# Altium integrated library ON Semi MOSFETs.IntLib: 1097 symbols (part 15 of 26)
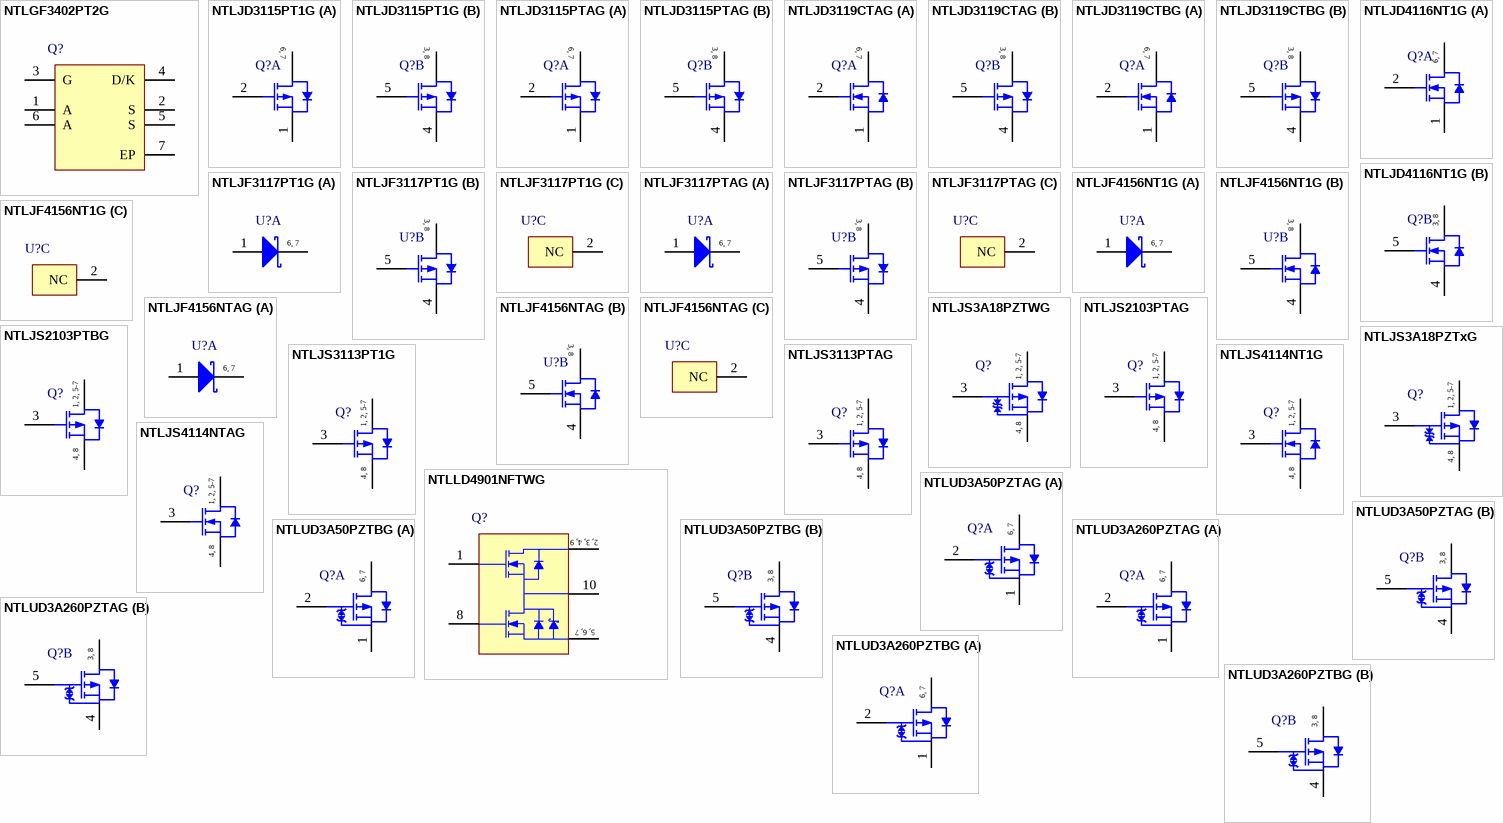
[diagram p45: symbols NTLGF3402PT2G to NTLUD3A260PZTBG]

## NTLJD4116NT1G
designator Q?
Power MOSFET, 30 V, 4.6 A, uCool(TM) Dual N-Channel, 6-Pin WDFN, Pb-Free, Tape and Reel; Manufacturer: On Semiconductor; PartNumber: NTLJD4116NT1G; Channel Polarity: N Channel; Ciss Typ (pF): 427; Coss Typ (pF): 51; Crss Typ (pF): 32; ID Max (A): 4.6; Qrr Typ (nC): 5; V(BR)DSS Min (V): 30; VGS Max (V): 8; VGS(th) Max (V): 1; DatasheetVersion: Rev. 4; PackageVersion: Rev. B; PackageReference: WDFN-6-506-AN-01_B; PackageDescription: 6-Pin Small Outline No-Lead, Body 2 x 2 mm, Pitch 0.65 mm; Configuration: Dual; Package Type: WDFN-6; Packing: Tape and Reel; RoHS: Pb-Free; Mounting Technology: Surface Mount; ComponentLink1Description: Manufacturer URL; ComponentLink1URL: http://www.onsemi.com/; ComponentLink2Description: Datasheet; ComponentLink2URL: http://www.onsemi.com/pub_link/Collateral/NTLJD4116N-D.PDF; ComponentLink3Description: Package Specification; ComponentLink3URL: http://www.onsemi.com/pub_link/Collateral/NTLJF4156N-D.PDF
footprint ONSC-WDFN-6-506-AN-01_B_V (SON, 6-Leads, Body 2x2mm, Pitch 0.65mm)
part A pins: 1 S1, 2 G1, 6 D1, 7 D1
part B pins: 3 D2, 4 S2, 5 G2, 8 D2
part A text: 6, 7
part B text: 3, 8

## NTLJF3117PT1G
designator U?
Power MOSFET and Schottky Diode, -20 V, -4.1 A, P-Channel, with 2 A Schottky Barrier Diode, 6-Pin WDFN, Pb-Free, Tape and Reel; Manufacturer: On Semiconductor; PartNumber: NTLJF3117PT1G; Channel Polarity: P Channel; Ciss Typ (pF): 531; Configuration: with Schottky Diode; Coss Typ (pF): 91; Crss Typ (pF): 56; ID Max (A): 4.1; Qrr Typ (nC): 5.7; V(BR)DSS Min (V): 20; VGS Max (V): 8; VGS(th) Max (V): 1; DatasheetVersion: Rev. 2; PackageVersion: Rev. C; PackageReference: WDFN-6-506-AN-01_C; PackageDescription: 6-Pin Small Outline No-Lead, Body 2 x 2 mm, Pitch 0.65 mm; Package Type: WDFN-6; Packing: Tape and Reel; RoHS: Pb-Free; Mounting Technology: Surface Mount; ComponentLink1Description: Manufacturer URL; ComponentLink1URL: http://www.onsemi.com/; ComponentLink2Description: Datasheet; ComponentLink2URL: http://www.onsemi.com/pub_link/Collateral/NTLJF3117P-D.PDF; ComponentLink3Description: Package Specification; ComponentLink3URL: http://www.onsemi.com/pub_link/Collateral/NTLJF3117P-D.PDF
footprint ONSC-WDFN-6-506-AN-01_C_V (SON, 6-Leads, Body 2x2mm, Pitch 0.65mm)
part A pins: 1 A, 6 K, 7 K
part B pins: 3 D, 4 S, 5 G, 8 D
part C pins: 2 NC
part A text: 6, 7
part B text: 3, 8

## NTLJF3117PTAG
designator U?
Power MOSFET and Schottky Diode, -20 V, -4.1 A, P-Channel, with 2 A Schottky Barrier Diode, 6-Pin WDFN, Pb-Free, Tape and Reel; Manufacturer: On Semiconductor; PartNumber: NTLJF3117PTAG; Channel Polarity: P Channel; Ciss Typ (pF): 531; Configuration: with Schottky Diode; Coss Typ (pF): 91; Crss Typ (pF): 56; ID Max (A): 4.1; Qrr Typ (nC): 5.7; V(BR)DSS Min (V): 20; VGS Max (V): 8; VGS(th) Max (V): 1; DatasheetVersion: Rev. 2; PackageVersion: Rev. C; PackageReference: WDFN-6-506-AN-01_C; PackageDescription: 6-Pin Small Outline No-Lead, Body 2 x 2 mm, Pitch 0.65 mm; Package Type: WDFN-6; Packing: Tape and Reel; RoHS: Pb-Free; Mounting Technology: Surface Mount; ComponentLink1Description: Manufacturer URL; ComponentLink1URL: http://www.onsemi.com/; ComponentLink2Description: Datasheet; ComponentLink2URL: http://www.onsemi.com/pub_link/Collateral/NTLJF3117P-D.PDF; ComponentLink3Description: Package Specification; ComponentLink3URL: http://www.onsemi.com/pub_link/Collateral/NTLJF3117P-D.PDF
footprint ONSC-WDFN-6-506-AN-01_C_V (SON, 6-Leads, Body 2x2mm, Pitch 0.65mm)
part A pins: 1 A, 6 K, 7 K
part B pins: 3 D, 4 S, 5 G, 8 D
part C pins: 2 NC
part A text: 6, 7
part B text: 3, 8

## NTLJF4156NT1G
designator U?
Power MOSFET and Schottky Diode, 30 V, 4.6 A, uCool(TM) N-Channel, with 2 A Schottky Barrier Diode, 6-Pin WDFN, Pb-Free, Tape and Reel; Manufacturer: On Semiconductor; PartNumber: NTLJF4156NT1G; Channel Polarity: N Channel; Ciss Typ (pF): 427; Configuration: with Schottky Diode; Coss Typ (pF): 51; Crss Typ (pF): 32; ID Max (A): 4.6; Qrr Typ (nC): 5; V(BR)DSS Min (V): 30; VGS Max (V): 8; VGS(th) Max (V): 1; DatasheetVersion: Rev. 4; PackageVersion: Rev. B; PackageReference: WDFN-6-506-AN-01_B; PackageDescription: 6-Pin Small Outline No-Lead, Body 2 x 2 mm, Pitch 0.65 mm; Package Type: WDFN-6; Packing: Tape and Reel; RoHS: Pb-Free; Mounting Technology: Surface Mount; ComponentLink1Description: Manufacturer URL; ComponentLink1URL: http://www.onsemi.com/; ComponentLink2Description: Datasheet; ComponentLink2URL: http://www.onsemi.com/pub_link/Collateral/NTLJF4156N-D.PDF; ComponentLink3Description: Package Specification; ComponentLink3URL: http://www.onsemi.com/pub_link/Collateral/NTLJF4156N-D.PDF
footprint ONSC-WDFN-6-506-AN-01_B_V (SON, 6-Leads, Body 2x2mm, Pitch 0.65mm)
part A pins: 1 A, 6 K, 7 K
part B pins: 3 D, 4 S, 5 G, 8 D
part C pins: 2 NC
part A text: 6, 7
part B text: 3, 8

## NTLJF4156NTAG
designator U?
Power MOSFET and Schottky Diode, 30 V, 4.6 A, uCool(TM) N-Channel, with 2 A Schottky Barrier Diode, 6-Pin WDFN, Pb-Free, Tape and Reel; Manufacturer: On Semiconductor; PartNumber: NTLJF4156NTAG; Channel Polarity: N Channel; Ciss Typ (pF): 427; Configuration: with Schottky Diode; Coss Typ (pF): 51; Crss Typ (pF): 32; ID Max (A): 4.6; Qrr Typ (nC): 5; V(BR)DSS Min (V): 30; VGS Max (V): 8; VGS(th) Max (V): 1; DatasheetVersion: Rev. 4; PackageVersion: Rev. B; PackageReference: WDFN-6-506-AN-01_B; PackageDescription: 6-Pin Small Outline No-Lead, Body 2 x 2 mm, Pitch 0.65 mm; Package Type: WDFN-6; Packing: Tape and Reel; RoHS: Pb-Free; Mounting Technology: Surface Mount; ComponentLink1Description: Manufacturer URL; ComponentLink1URL: http://www.onsemi.com/; ComponentLink2Description: Datasheet; ComponentLink2URL: http://www.onsemi.com/pub_link/Collateral/NTLJF4156N-D.PDF; ComponentLink3Description: Package Specification; ComponentLink3URL: http://www.onsemi.com/pub_link/Collateral/NTLJF4156N-D.PDF
footprint ONSC-WDFN-6-506-AN-01_B_V (SON, 6-Leads, Body 2x2mm, Pitch 0.65mm)
part A pins: 1 A, 6 K, 7 K
part B pins: 3 D, 4 S, 5 G, 8 D
part C pins: 2 NC
part A text: 6, 7
part B text: 3, 8

## NTLJS3A18PZTWG
designator Q?
Power MOSFET, -20 V, -8.2 A, uCool(TM) Single P-Channel, 6-Pin WDFN, Pb-Free, Tape and Reel; Manufacturer: On Semiconductor; PartNumber: NTLJS3A18PZTWG; Channel Polarity: P Channel; Ciss Typ (pF): 2240; Coss Typ (pF): 240; Crss Typ (pF): 210; ID Max (A): 8.2; Qrr Typ (nC): 12; V(BR)DSS Min (V): 20; VGS Max (V): 8; VGS(th) Max (V): 1; DatasheetVersion: Rev. 0; PackageVersion: Rev. B, 04/2006; PackageReference: WDFN-6-506AP-01; PackageDescription: 6-Pin Small Outline No-Lead, Body 2 x 2 mm, Pitch 0.65 mm; Configuration: Single; Package Type: WDFN-6; Packing: Tape and Reel; RoHS: Pb-Free; Mounting Technology: Surface Mount; ComponentLink1Description: Manufacturer URL; ComponentLink1URL: http://www.onsemi.com/; ComponentLink2Description: Datasheet; ComponentLink2URL: http://www.onsemi.com/pub_link/Collateral/NTLJS3A18PZ-D.PDF; ComponentLink3Description: Package Specification; ComponentLink3URL: http://www.onsemi.com/pub_link/Collateral/506AP.PDF
footprint ONSC-WDFN-6-506AP-01_V (SON, 6-Leads, Body 2x2mm, Pitch 0.65mm)
pins: 1 D, 2 D, 3 G, 4 S, 5 D, 6 D, 7 D, 8 S
text: 1, 2, 5-7; 4, 8

## NTLJS3A18PZTxG
designator Q?
Power MOSFET, -20 V, -8.2 A, uCool(TM) Single P-Channel, 6-Pin WDFN, Pb-Free, Tape and Reel; Manufacturer: On Semiconductor; PartNumber: NTLJS3A18PZTxG; Channel Polarity: P Channel; Ciss Typ (pF): 2240; Coss Typ (pF): 240; Crss Typ (pF): 210; ID Max (A): 8.2; Qrr Typ (nC): 12; V(BR)DSS Min (V): 20; VGS Max (V): 8; VGS(th) Max (V): 1; DatasheetVersion: Rev. 0; PackageVersion: Rev. B, 04/2006; PackageReference: WDFN-6-506AP-01; PackageDescription: 6-Pin Small Outline No-Lead, Body 2 x 2 mm, Pitch 0.65 mm; Configuration: Single; Package Type: WDFN-6; Packing: Tape and Reel; RoHS: Pb-Free; Mounting Technology: Surface Mount; ComponentLink1Description: Manufacturer URL; ComponentLink1URL: http://www.onsemi.com/; ComponentLink2Description: Datasheet; ComponentLink2URL: http://www.onsemi.com/pub_link/Collateral/NTLJS3A18PZ-D.PDF; ComponentLink3Description: Package Specification; ComponentLink3URL: http://www.onsemi.com/pub_link/Collateral/506AP.PDF
footprint ONSC-WDFN-6-506AP-01_V (SON, 6-Leads, Body 2x2mm, Pitch 0.65mm)
pins: 1 D, 2 D, 3 G, 4 S, 5 D, 6 D, 7 D, 8 S
text: 1, 2, 5-7; 4, 8

## NTLJS2103PTAG
designator Q?
Power MOSFET, -12 V, -7.7 A, uCool(TM) Single P-Channel, 6-Pin WDFN, Pb-Free, Tape and Reel; Manufacturer: On Semiconductor; PartNumber: NTLJS2103PTAG; Channel Polarity: P Channel; Ciss Typ (pF): 1157; Coss Typ (pF): 300; Crss Typ (pF): 200; Qrr Typ (nC): 14; V(BR)DSS Min (V): 12; VGS Max (V): 8; VGS(th) Max (V): 0.8; DatasheetVersion: Rev. 3; PackageVersion: Rev. B, 04/2006; PackageReference: WDFN-6-506AP-01; PackageDescription: 6-Pin Small Outline No-Lead, Body 2 x 2 mm, Pitch 0.65 mm; Configuration: Single; Package Type: WDFN-6; Packing: Tape and Reel; RoHS: Pb-Free; Mounting Technology: Surface Mount; ComponentLink1Description: Manufacturer URL; ComponentLink1URL: http://www.onsemi.com/; ComponentLink2Description: Datasheet; ComponentLink2URL: http://www.onsemi.com/pub_link/Collateral/NTLJS2103P-D.PDF; ComponentLink3Description: Package Specification; ComponentLink3URL: http://www.onsemi.com/pub_link/Collateral/506AP.PDF
footprint ONSC-WDFN-6-506AP-01_V (SON, 6-Leads, Body 2x2mm, Pitch 0.65mm)
pins: 1 D, 2 D, 3 G, 4 S, 5 D, 6 D, 7 D, 8 S
text: 1, 2, 5-7; 4, 8

## NTLJS2103PTBG
designator Q?
Power MOSFET, -12 V, -7.7 A, uCool(TM) Single P-Channel, 6-Pin WDFN, Pb-Free, Tape and Reel; Manufacturer: On Semiconductor; PartNumber: NTLJS2103PTBG; Channel Polarity: P Channel; Ciss Typ (pF): 1157; Coss Typ (pF): 300; Crss Typ (pF): 200; Qrr Typ (nC): 14; V(BR)DSS Min (V): 12; VGS Max (V): 8; VGS(th) Max (V): 0.8; DatasheetVersion: Rev. 3; PackageVersion: Rev. B, 04/2006; PackageReference: WDFN-6-506AP-01; PackageDescription: 6-Pin Small Outline No-Lead, Body 2 x 2 mm, Pitch 0.65 mm; Configuration: Single; Package Type: WDFN-6; Packing: Tape and Reel; RoHS: Pb-Free; Mounting Technology: Surface Mount; ComponentLink1Description: Manufacturer URL; ComponentLink1URL: http://www.onsemi.com/; ComponentLink2Description: Datasheet; ComponentLink2URL: http://www.onsemi.com/pub_link/Collateral/NTLJS2103P-D.PDF; ComponentLink3Description: Package Specification; ComponentLink3URL: http://www.onsemi.com/pub_link/Collateral/506AP.PDF
footprint ONSC-WDFN-6-506AP-01_V (SON, 6-Leads, Body 2x2mm, Pitch 0.65mm)
pins: 1 D, 2 D, 3 G, 4 S, 5 D, 6 D, 7 D, 8 S
text: 1, 2, 5-7; 4, 8

## NTLJS3113PT1G
designator Q?
Power MOSFET, -20 V, -7.7 A, uCool(TM) Single P-Channel, 6-Pin WDFN, Pb-Free, Tape and Reel; Manufacturer: On Semiconductor; PartNumber: NTLJS3113PT1G; Channel Polarity: P Channel; Ciss Typ (pF): 1329; Coss Typ (pF): 213; Crss Typ (pF): 120; ID Max (A): 7.7; Qrr Typ (nC): 44; V(BR)DSS Min (V): 20; VGS Max (V): 8; VGS(th) Max (V): 1; DatasheetVersion: Rev. 5; PackageVersion: Rev. B, 04/2006; PackageReference: WDFN-6-506AP-01; PackageDescription: 6-Pin Small Outline No-Lead, Body 2 x 2 mm, Pitch 0.65 mm; Configuration: Single; Package Type: WDFN-6; Packing: Tape and Reel; RoHS: Pb-Free; Mounting Technology: Surface Mount; ComponentLink1Description: Manufacturer URL; ComponentLink1URL: http://www.onsemi.com/; ComponentLink2Description: Datasheet; ComponentLink2URL: http://www.onsemi.com/pub_link/Collateral/NTLJS3113P-D.PDF; ComponentLink3Description: Package Specification; ComponentLink3URL: http://www.onsemi.com/pub_link/Collateral/506AP.PDF
footprint ONSC-WDFN-6-506AP-01_V (SON, 6-Leads, Body 2x2mm, Pitch 0.65mm)
pins: 1 D, 2 D, 3 G, 4 S, 5 D, 6 D, 7 D, 8 S
text: 1, 2, 5-7; 4, 8

## NTLJS3113PTAG
designator Q?
Power MOSFET, -20 V, -7.7 A, uCool(TM) Single P-Channel, 6-Pin WDFN, Pb-Free, Tape and Reel; Manufacturer: On Semiconductor; PartNumber: NTLJS3113PTAG; Channel Polarity: P Channel; Ciss Typ (pF): 1329; Coss Typ (pF): 213; Crss Typ (pF): 120; ID Max (A): 7.7; Qrr Typ (nC): 44; V(BR)DSS Min (V): 20; VGS Max (V): 8; VGS(th) Max (V): 1; DatasheetVersion: Rev. 5; PackageVersion: Rev. B, 04/2006; PackageReference: WDFN-6-506AP-01; PackageDescription: 6-Pin Small Outline No-Lead, Body 2 x 2 mm, Pitch 0.65 mm; Configuration: Single; Package Type: WDFN-6; Packing: Tape and Reel; RoHS: Pb-Free; Mounting Technology: Surface Mount; ComponentLink1Description: Manufacturer URL; ComponentLink1URL: http://www.onsemi.com/; ComponentLink2Description: Datasheet; ComponentLink2URL: http://www.onsemi.com/pub_link/Collateral/NTLJS3113P-D.PDF; ComponentLink3Description: Package Specification; ComponentLink3URL: http://www.onsemi.com/pub_link/Collateral/506AP.PDF
footprint ONSC-WDFN-6-506AP-01_V (SON, 6-Leads, Body 2x2mm, Pitch 0.65mm)
pins: 1 D, 2 D, 3 G, 4 S, 5 D, 6 D, 7 D, 8 S
text: 1, 2, 5-7; 4, 8

## NTLJS4114NT1G
designator Q?
Power MOSFET, 30 V, 7.8 A, uCool(TM) Single N-Channel, 6-Pin WDFN, Pb-Free, Tape and Reel; Manufacturer: On Semiconductor; PartNumber: NTLJS4114NT1G; Channel Polarity: N Channel; Ciss Typ (pF): 650; Coss Typ (pF): 115.5; Crss Typ (pF): 70; ID Max (A): 7.8; Qrr Typ (nC): 5; V(BR)DSS Min (V): 30; VGS Max (V): 12; VGS(th) Max (V): 1; DatasheetVersion: Rev. 3; PackageVersion: Rev. B, 04/2006; PackageReference: WDFN-6-506AP-01; PackageDescription: 6-Pin Small Outline No-Lead, Body 2 x 2 mm, Pitch 0.65 mm; Configuration: Single; Package Type: WDFN-6; Packing: Tape and Reel; RoHS: Pb-Free; Mounting Technology: Surface Mount; ComponentLink1Description: Manufacturer URL; ComponentLink1URL: http://www.onsemi.com/; ComponentLink2Description: Datasheet; ComponentLink2URL: http://www.onsemi.com/pub_link/Collateral/NTLJS4114N-D.PDF; ComponentLink3Description: Package Specification; ComponentLink3URL: http://www.onsemi.com/pub_link/Collateral/506AP.PDF
footprint ONSC-WDFN-6-506AP-01_V (SON, 6-Leads, Body 2x2mm, Pitch 0.65mm)
pins: 1 D, 2 D, 3 G, 4 S, 5 D, 6 D, 7 D, 8 S
text: 1, 2, 5-7; 4, 8

## NTLJS4114NTAG
designator Q?
Power MOSFET, 30 V, 7.8 A, uCool(TM) Single N-Channel, 6-Pin WDFN, Pb-Free, Tape and Reel; Manufacturer: On Semiconductor; PartNumber: NTLJS4114NTAG; Channel Polarity: N Channel; Ciss Typ (pF): 650; Coss Typ (pF): 115.5; Crss Typ (pF): 70; ID Max (A): 7.8; Qrr Typ (nC): 5; V(BR)DSS Min (V): 30; VGS Max (V): 12; VGS(th) Max (V): 1; DatasheetVersion: Rev. 3; PackageVersion: Rev. B, 04/2006; PackageReference: WDFN-6-506AP-01; PackageDescription: 6-Pin Small Outline No-Lead, Body 2 x 2 mm, Pitch 0.65 mm; Configuration: Single; Package Type: WDFN-6; Packing: Tape and Reel; RoHS: Pb-Free; Mounting Technology: Surface Mount; ComponentLink1Description: Manufacturer URL; ComponentLink1URL: http://www.onsemi.com/; ComponentLink2Description: Datasheet; ComponentLink2URL: http://www.onsemi.com/pub_link/Collateral/NTLJS4114N-D.PDF; ComponentLink3Description: Package Specification; ComponentLink3URL: http://www.onsemi.com/pub_link/Collateral/506AP.PDF
footprint ONSC-WDFN-6-506AP-01_V (SON, 6-Leads, Body 2x2mm, Pitch 0.65mm)
pins: 1 D, 2 D, 3 G, 4 S, 5 D, 6 D, 7 D, 8 S
text: 1, 2, 5-7; 4, 8

## NTLLD4901NFTWG
designator Q?
Dual N-Channel Power MOSFET with Integrated Schottky, 30 V, High Side 11 A / Low Side 13 A, 8-Pin WDFN, Pb-Free, Tape and Reel; Manufacturer: On Semiconductor; PartNumber: NTLLD4901NFTWG; Channel Polarity: N Channel; V(BR)DSS Min (V): 30; VGS Max (V): 20; VGS(th) Max (V): 2.2; DatasheetVersion: Rev. 1; PackageVersion: Rev. B, 07/2012; PackageReference: WDFN-8-511BP; PackageDescription: 8-Pin Small Outline No-Lead, Body 3 x 3 mm, Pitch 0.65 mm; Configuration: Dual; Package Type: WDFN-8; Packing: Tape and Reel; RoHS: Pb-Free; Mounting Technology: Surface Mount; ComponentLink1Description: Manufacturer URL; ComponentLink1URL: http://www.onsemi.com/; ComponentLink2Description: Datasheet; ComponentLink2URL: http://www.onsemi.com/pub_link/Collateral/NTLLD4901NF-D.PDF; ComponentLink3Description: Package Specification; ComponentLink3URL: http://www.onsemi.com/pub_link/Collateral/511BP.PDF
footprint ONSC-WDFN-8-511BP_V (SON, 8-Leads, Body 3x3mm, Pitch 0.65mm)
pins: 1 G1, 2 D1, 3 D1, 4 D1, 5 S2, 6 S2, 7 S2, 8 G2, 9 D1, 10 S1/D2
text: 2, 3, 4, 9; 5, 6, 7

## NTLUD3A50PZTAG
designator Q?
Power MOSFET, -20 V, -5.6 A, uCool(TM) Dual P-Channel, 6-Pin UDFN, Pb-Free, Tape and Reel; Manufacturer: On Semiconductor; PartNumber: NTLUD3A50PZTAG; Channel Polarity: P Channel; Ciss Typ (pF): 920; Coss Typ (pF): 85; Crss Typ (pF): 80; ID Max (A): 5.6; Qrr Typ (nC): 4; V(BR)DSS Min (V): 20; VGS Max (V): 8; VGS(th) Max (V): 1; DatasheetVersion: Rev. 1; PackageVersion: Rev. B, 08/2012; PackageReference: UDFN-6-517BF; PackageDescription: 6-Pin Small Outline No-Lead, Body 2 x 2 mm, Pitch 0.65 mm; Configuration: Dual; Package Type: UDFN-6; Packing: Tape and Reel; RoHS: Pb-Free; Mounting Technology: Surface Mount; ComponentLink1Description: Manufacturer URL; ComponentLink1URL: http://www.onsemi.com/; ComponentLink2Description: Datasheet; ComponentLink2URL: http://www.onsemi.com/pub_link/Collateral/NTLUD3A50PZ-D.PDF; ComponentLink3Description: Package Specification; ComponentLink3URL: http://www.onsemi.com/pub_link/Collateral/517BF.PDF
footprint ONSC-UDFN-6-517BF_V (SON, 6-Leads, Body 2x2mm, Pitch 0.65mm)
part A pins: 1 S1, 2 G1, 6 D1, 7 D1
part B pins: 3 D2, 4 S2, 5 G2, 8 D2
part A text: 6, 7
part B text: 3, 8

## NTLUD3A50PZTBG
designator Q?
Power MOSFET, -20 V, -5.6 A, uCool(TM) Dual P-Channel, 6-Pin UDFN, Pb-Free, Tape and Reel; Manufacturer: On Semiconductor; PartNumber: NTLUD3A50PZTBG; Channel Polarity: P Channel; Ciss Typ (pF): 920; Coss Typ (pF): 85; Crss Typ (pF): 80; ID Max (A): 5.6; Qrr Typ (nC): 4; V(BR)DSS Min (V): 20; VGS Max (V): 8; VGS(th) Max (V): 1; DatasheetVersion: Rev. 1; PackageVersion: Rev. B, 08/2012; PackageReference: UDFN-6-517BF; PackageDescription: 6-Pin Small Outline No-Lead, Body 2 x 2 mm, Pitch 0.65 mm; Configuration: Dual; Package Type: UDFN-6; Packing: Tape and Reel; RoHS: Pb-Free; Mounting Technology: Surface Mount; ComponentLink1Description: Manufacturer URL; ComponentLink1URL: http://www.onsemi.com/; ComponentLink2Description: Datasheet; ComponentLink2URL: http://www.onsemi.com/pub_link/Collateral/NTLUD3A50PZ-D.PDF; ComponentLink3Description: Package Specification; ComponentLink3URL: http://www.onsemi.com/pub_link/Collateral/517BF.PDF
footprint ONSC-UDFN-6-517BF_V (SON, 6-Leads, Body 2x2mm, Pitch 0.65mm)
part A pins: 1 S1, 2 G1, 6 D1, 7 D1
part B pins: 3 D2, 4 S2, 5 G2, 8 D2
part A text: 6, 7
part B text: 3, 8

## NTLUD3A260PZTAG
designator Q?
Power MOSFET, -20 V, -2.1 A, uCool(TM) Dual P-Channel, ESD, 6-Pin UDFN, Pb-Free, Tape and Reel; Manufacturer: On Semiconductor; PartNumber: NTLUD3A260PZTAG; Channel Polarity: P Channel; Ciss Typ (pF): 300; Coss Typ (pF): 34; Crss Typ (pF): 29; ID Max (A): 2.1; Qrr Typ (nC): 5.1; V(BR)DSS Min (V): 20; VGS Max (V): 8; VGS(th) Max (V): 1; DatasheetVersion: Rev. 1; PackageVersion: Rev. O, 09/2008; PackageReference: UDFN-6-517AT-01; PackageDescription: 6-Pin Small Outline No-Lead, Body 1.6 x 1.6 mm, Pitch 0.5 mm; Configuration: Dual; Package Type: UDFN-6; Packing: Tape and Reel; RoHS: Pb-Free; Mounting Technology: Surface Mount; ComponentLink1Description: Manufacturer URL; ComponentLink1URL: http://www.onsemi.com/; ComponentLink2Description: Datasheet; ComponentLink2URL: http://www.onsemi.com/pub_link/Collateral/NTLUD3A260PZ-D.PDF; ComponentLink3Description: Package Specification; ComponentLink3URL: http://www.onsemi.com/pub_link/Collateral/517AT.PDF
footprint ONSC-UDFN-6-517AT-01_V (SON, 6-Leads, Body 1.6x1.6mm, Pitch 0.5mm)
part A pins: 1 S1, 2 G1, 6 D1, 7 D1
part B pins: 3 D2, 4 S2, 5 G2, 8 D2
part A text: 6, 7
part B text: 3, 8

## NTLUD3A260PZTBG
designator Q?
Power MOSFET, -20 V, -2.1 A, uCool(TM) Dual P-Channel, ESD, 6-Pin UDFN, Pb-Free, Tape and Reel; Manufacturer: On Semiconductor; PartNumber: NTLUD3A260PZTBG; Channel Polarity: P Channel; Ciss Typ (pF): 300; Coss Typ (pF): 34; Crss Typ (pF): 29; ID Max (A): 2.1; Qrr Typ (nC): 5.1; V(BR)DSS Min (V): 20; VGS Max (V): 8; VGS(th) Max (V): 1; DatasheetVersion: Rev. 1; PackageVersion: Rev. O, 09/2008; PackageReference: UDFN-6-517AT-01; PackageDescription: 6-Pin Small Outline No-Lead, Body 1.6 x 1.6 mm, Pitch 0.5 mm; Configuration: Dual; Package Type: UDFN-6; Packing: Tape and Reel; RoHS: Pb-Free; Mounting Technology: Surface Mount; ComponentLink1Description: Manufacturer URL; ComponentLink1URL: http://www.onsemi.com/; ComponentLink2Description: Datasheet; ComponentLink2URL: http://www.onsemi.com/pub_link/Collateral/NTLUD3A260PZ-D.PDF; ComponentLink3Description: Package Specification; ComponentLink3URL: http://www.onsemi.com/pub_link/Collateral/517AT.PDF
footprint ONSC-UDFN-6-517AT-01_V (SON, 6-Leads, Body 1.6x1.6mm, Pitch 0.5mm)
part A pins: 1 S1, 2 G1, 6 D1, 7 D1
part B pins: 3 D2, 4 S2, 5 G2, 8 D2
part A text: 6, 7
part B text: 3, 8

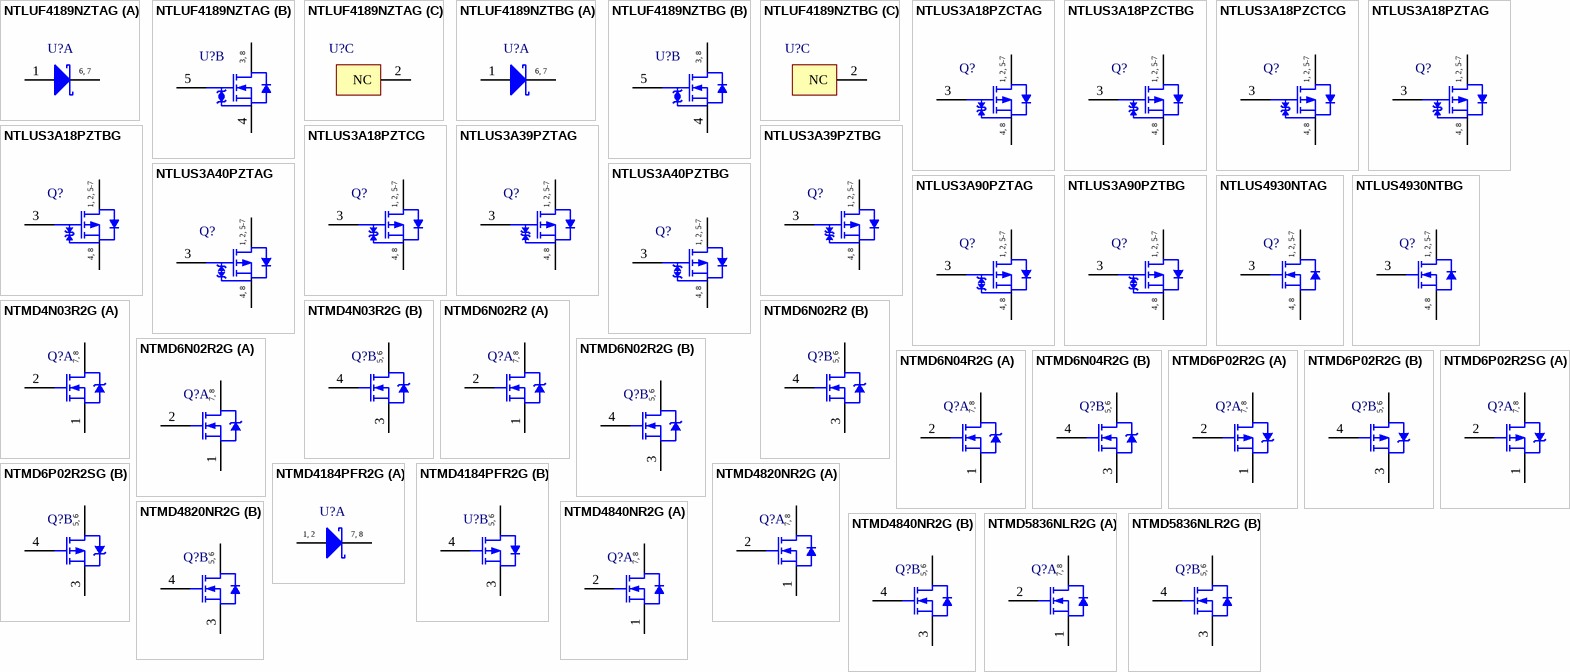
[diagram p18: symbols NTLUF4189NZTAG to NTMD5836NLR2G]

## NTLUF4189NZTAG
designator U?
Power MOSFET and Schottky Diode, 30 V, N-Channel with 0.5 A Schottky Barrier Diode, 6-Pin UDFN, Pb-Free, Tape and Reel; Manufacturer: On Semiconductor; PartNumber: NTLUF4189NZTAG; Channel Polarity: N Channel; Ciss Typ (pF): 95; Configuration: Single; Coss Typ (pF): 15; Crss Typ (pF): 10; Qrr Typ (nC): 2.1; V(BR)DSS Min (V): 30; VGS Max (V): 8; VGS(th) Max (V): 1.5; DatasheetVersion: Rev. 1; PackageVersion: Rev. O, 09/2008; PackageReference: UDFN-6-517AT-01; PackageDescription: 6-Pin Small Outline No-Lead, Body 1.6 x 1.6 mm, Pitch 0.5 mm; Package Type: UDFN-6; Packing: Tape and Reel; RoHS: Pb-Free; Mounting Technology: Surface Mount; ComponentLink1Description: Manufacturer URL; ComponentLink1URL: http://www.onsemi.com/; ComponentLink2Description: Datasheet; ComponentLink2URL: http://www.onsemi.com/pub_link/Collateral/NTLUF4189NZ-D.PDF; ComponentLink3Description: Package Specification; ComponentLink3URL: http://www.onsemi.com/pub_link/Collateral/517AT.PDF
footprint ONSC-UDFN-6-517AT-01_V (SON, 6-Leads, Body 1.6x1.6mm, Pitch 0.5mm)
part A pins: 1 A, 6 K, 7 K
part B pins: 3 D, 4 S, 5 G, 8 D
part C pins: 2 NC
part A text: 6, 7
part B text: 3, 8

## NTLUF4189NZTBG
designator U?
Power MOSFET and Schottky Diode, 30 V, N-Channel with 0.5 A Schottky Barrier Diode, 6-Pin UDFN, Pb-Free, Tape and Reel; Manufacturer: On Semiconductor; PartNumber: NTLUF4189NZTBG; Channel Polarity: N Channel; Ciss Typ (pF): 95; Configuration: Single; Coss Typ (pF): 15; Crss Typ (pF): 10; Qrr Typ (nC): 2.1; V(BR)DSS Min (V): 30; VGS Max (V): 8; VGS(th) Max (V): 1.5; DatasheetVersion: Rev. 1; PackageVersion: Rev. O, 09/2008; PackageReference: UDFN-6-517AT-01; PackageDescription: 6-Pin Small Outline No-Lead, Body 1.6 x 1.6 mm, Pitch 0.5 mm; Package Type: UDFN-6; Packing: Tape and Reel; RoHS: Pb-Free; Mounting Technology: Surface Mount; ComponentLink1Description: Manufacturer URL; ComponentLink1URL: http://www.onsemi.com/; ComponentLink2Description: Datasheet; ComponentLink2URL: http://www.onsemi.com/pub_link/Collateral/NTLUF4189NZ-D.PDF; ComponentLink3Description: Package Specification; ComponentLink3URL: http://www.onsemi.com/pub_link/Collateral/517AT.PDF
footprint ONSC-UDFN-6-517AT-01_V (SON, 6-Leads, Body 1.6x1.6mm, Pitch 0.5mm)
part A pins: 1 A, 6 K, 7 K
part B pins: 3 D, 4 S, 5 G, 8 D
part C pins: 2 NC
part A text: 6, 7
part B text: 3, 8

## NTLUS3A18PZCTAG
designator Q?
Power MOSFET, -20 V, -8.2 A, Single P-Channel, 6-Pin UDFN, Pb-Free, Tape and Reel; Manufacturer: On Semiconductor; PartNumber: NTLUS3A18PZCTAG; Channel Polarity: P Channel; Ciss Typ (pF): 2240; Coss Typ (pF): 240; Crss Typ (pF): 210; ID Max (A): 8.2; Qrr Typ (nC): 12; V(BR)DSS Min (V): 20; VGS Max (V): 8; VGS(th) Max (V): 1; DatasheetVersion: Rev. 0; PackageVersion: Rev. A, 02/2010; PackageReference: UDFN-6-517BG-01; PackageDescription: 6-Pin Small Outline No-Lead, Body 2 x 2 mm, Pitch 0.65 mm; Supplier 1: Newark; Supplier Part Number 1: 97W6376; Supplier 2: Mouser; Supplier Part Number 2: 863-NTLUS3A18PZCTAG; Configuration: Single; Package Type: UDFN-6; Packing: Tape and Reel; RoHS: Pb-Free; Mounting Technology: Surface Mount; ComponentLink1Description: Manufacturer URL; ComponentLink1URL: http://www.onsemi.com/; ComponentLink2Description: Datasheet; ComponentLink2URL: http://www.onsemi.com/pub_link/Collateral/NTLUS3A18PZC-D.PDF; ComponentLink3Description: Package Specification; ComponentLink3URL: http://www.onsemi.com/pub_link/Collateral/517BG.PDF
footprint ONSC-UDFN-6-517BG-01_V (SON, 6-Leads, Body 2x2mm, Pitch 0.65mm)
pins: 1 D, 2 D, 3 G, 4 S, 5 D, 6 D, 7 D, 8 S
text: 1, 2, 5-7; 4, 8

## NTLUS3A18PZCTBG
designator Q?
Power MOSFET, -20 V, -8.2 A, Single P-Channel, 6-Pin UDFN, Pb-Free, Tape and Reel; Manufacturer: On Semiconductor; PartNumber: NTLUS3A18PZCTBG; Channel Polarity: P Channel; Ciss Typ (pF): 2240; Coss Typ (pF): 240; Crss Typ (pF): 210; ID Max (A): 8.2; Qrr Typ (nC): 12; V(BR)DSS Min (V): 20; VGS Max (V): 8; VGS(th) Max (V): 1; DatasheetVersion: Rev. 0; PackageVersion: Rev. A, 02/2010; PackageReference: UDFN-6-517BG-01; PackageDescription: 6-Pin Small Outline No-Lead, Body 2 x 2 mm, Pitch 0.65 mm; Supplier 1: Newark; Supplier Part Number 1: 97W6377; Supplier 2: Mouser; Supplier Part Number 2: 863-NTLUS3A18PZCTBG; Configuration: Single; Package Type: UDFN-6; Packing: Tape and Reel; RoHS: Pb-Free; Mounting Technology: Surface Mount; ComponentLink1Description: Manufacturer URL; ComponentLink1URL: http://www.onsemi.com/; ComponentLink2Description: Datasheet; ComponentLink2URL: http://www.onsemi.com/pub_link/Collateral/NTLUS3A18PZC-D.PDF; ComponentLink3Description: Package Specification; ComponentLink3URL: http://www.onsemi.com/pub_link/Collateral/517BG.PDF
footprint ONSC-UDFN-6-517BG-01_V (SON, 6-Leads, Body 2x2mm, Pitch 0.65mm)
pins: 1 D, 2 D, 3 G, 4 S, 5 D, 6 D, 7 D, 8 S
text: 1, 2, 5-7; 4, 8

## NTLUS3A18PZCTCG
designator Q?
Power MOSFET, -20 V, -8.2 A, Single P-Channel, 6-Pin UDFN, Pb-Free, Tape and Reel; Manufacturer: On Semiconductor; PartNumber: NTLUS3A18PZCTCG; Channel Polarity: P Channel; Ciss Typ (pF): 2240; Coss Typ (pF): 240; Crss Typ (pF): 210; ID Max (A): 8.2; Qrr Typ (nC): 12; V(BR)DSS Min (V): 20; VGS Max (V): 8; VGS(th) Max (V): 1; DatasheetVersion: Rev. 0; PackageVersion: Rev. A, 02/2010; PackageReference: UDFN-6-517BG-01; PackageDescription: 6-Pin Small Outline No-Lead, Body 2 x 2 mm, Pitch 0.65 mm; Supplier 1: Newark; Supplier Part Number 1: 97W6378; Supplier 2: Mouser; Supplier Part Number 2: 863-NTLUS3A18PZCTCG; Configuration: Single; Package Type: UDFN-6; Packing: Tape and Reel; RoHS: Pb-Free; Mounting Technology: Surface Mount; ComponentLink1Description: Manufacturer URL; ComponentLink1URL: http://www.onsemi.com/; ComponentLink2Description: Datasheet; ComponentLink2URL: http://www.onsemi.com/pub_link/Collateral/NTLUS3A18PZC-D.PDF; ComponentLink3Description: Package Specification; ComponentLink3URL: http://www.onsemi.com/pub_link/Collateral/517BG.PDF
footprint ONSC-UDFN-6-517BG-01_V (SON, 6-Leads, Body 2x2mm, Pitch 0.65mm)
pins: 1 D, 2 D, 3 G, 4 S, 5 D, 6 D, 7 D, 8 S
text: 1, 2, 5-7; 4, 8

## NTLUS3A18PZTAG
designator Q?
Power MOSFET, -20 V, -8.2 A, Single P-Channel, 6-Pin UDFN, Pb-Free, Tape and Reel; Manufacturer: On Semiconductor; PartNumber: NTLUS3A18PZTAG; Channel Polarity: P Channel; Ciss Typ (pF): 2240; Coss Typ (pF): 240; Crss Typ (pF): 210; ID Max (A): 8.2; Qrr Typ (nC): 12; V(BR)DSS Min (V): 20; VGS Max (V): 8; VGS(th) Max (V): 1; DatasheetVersion: Rev. 3; PackageVersion: Rev. A, 02/2010; PackageReference: UDFN-6-517BG-01; PackageDescription: 6-Pin Small Outline No-Lead, Body 2 x 2 mm, Pitch 0.65 mm; Configuration: Single; Package Type: UDFN-6; Packing: Tape and Reel; RoHS: Pb-Free; Mounting Technology: Surface Mount; ComponentLink1Description: Manufacturer URL; ComponentLink1URL: http://www.onsemi.com/; ComponentLink2Description: Datasheet; ComponentLink2URL: http://www.onsemi.com/pub_link/Collateral/NTLUS3A18PZ-D.PDF; ComponentLink3Description: Package Specification; ComponentLink3URL: http://www.onsemi.com/pub_link/Collateral/517BG.PDF
footprint ONSC-UDFN-6-517BG-01_V (SON, 6-Leads, Body 2x2mm, Pitch 0.65mm)
pins: 1 D, 2 D, 3 G, 4 S, 5 D, 6 D, 7 D, 8 S
text: 1, 2, 5-7; 4, 8

## NTLUS3A18PZTBG
designator Q?
Power MOSFET, -20 V, -8.2 A, Single P-Channel, 6-Pin UDFN, Pb-Free, Tape and Reel; Manufacturer: On Semiconductor; PartNumber: NTLUS3A18PZTBG; Channel Polarity: P Channel; Ciss Typ (pF): 2240; Coss Typ (pF): 240; Crss Typ (pF): 210; ID Max (A): 8.2; Qrr Typ (nC): 12; V(BR)DSS Min (V): 20; VGS Max (V): 8; VGS(th) Max (V): 1; DatasheetVersion: Rev. 3; PackageVersion: Rev. A, 02/2010; PackageReference: UDFN-6-517BG-01; PackageDescription: 6-Pin Small Outline No-Lead, Body 2 x 2 mm, Pitch 0.65 mm; Configuration: Single; Package Type: UDFN-6; Packing: Tape and Reel; RoHS: Pb-Free; Mounting Technology: Surface Mount; ComponentLink1Description: Manufacturer URL; ComponentLink1URL: http://www.onsemi.com/; ComponentLink2Description: Datasheet; ComponentLink2URL: http://www.onsemi.com/pub_link/Collateral/NTLUS3A18PZ-D.PDF; ComponentLink3Description: Package Specification; ComponentLink3URL: http://www.onsemi.com/pub_link/Collateral/517BG.PDF
footprint ONSC-UDFN-6-517BG-01_V (SON, 6-Leads, Body 2x2mm, Pitch 0.65mm)
pins: 1 D, 2 D, 3 G, 4 S, 5 D, 6 D, 7 D, 8 S
text: 1, 2, 5-7; 4, 8

## NTLUS3A18PZTCG
designator Q?
Power MOSFET, -20 V, -8.2 A, Single P-Channel, 6-Pin UDFN, Pb-Free, Tape and Reel; Manufacturer: On Semiconductor; PartNumber: NTLUS3A18PZTCG; Channel Polarity: P Channel; Ciss Typ (pF): 2240; Coss Typ (pF): 240; Crss Typ (pF): 210; ID Max (A): 8.2; Qrr Typ (nC): 12; V(BR)DSS Min (V): 20; VGS Max (V): 8; VGS(th) Max (V): 1; DatasheetVersion: Rev. 3; PackageVersion: Rev. A, 02/2010; PackageReference: UDFN-6-517BG-01; PackageDescription: 6-Pin Small Outline No-Lead, Body 2 x 2 mm, Pitch 0.65 mm; Configuration: Single; Package Type: UDFN-6; Packing: Tape and Reel; RoHS: Pb-Free; Mounting Technology: Surface Mount; ComponentLink1Description: Manufacturer URL; ComponentLink1URL: http://www.onsemi.com/; ComponentLink2Description: Datasheet; ComponentLink2URL: http://www.onsemi.com/pub_link/Collateral/NTLUS3A18PZ-D.PDF; ComponentLink3Description: Package Specification; ComponentLink3URL: http://www.onsemi.com/pub_link/Collateral/517BG.PDF
footprint ONSC-UDFN-6-517BG-01_V (SON, 6-Leads, Body 2x2mm, Pitch 0.65mm)
pins: 1 D, 2 D, 3 G, 4 S, 5 D, 6 D, 7 D, 8 S
text: 1, 2, 5-7; 4, 8

## NTLUS3A39PZTAG
designator Q?
Power MOSFET, -20 V, -5.2 A, Single P-Channel, ESD, 6-Pin UDFN, Pb-Free, Tape and Reel; Manufacturer: On Semiconductor; PartNumber: NTLUS3A39PZTAG; Channel Polarity: P Channel; Ciss Typ (pF): 920; Coss Typ (pF): 85; Crss Typ (pF): 80; ID Max (A): 5.2; Qrr Typ (nC): 4; V(BR)DSS Min (V): 20; VGS Max (V): 8; VGS(th) Max (V): 1; DatasheetVersion: Rev. 1; PackageVersion: Rev. O, 10/2008; PackageReference: UDFN-6-517AU-01; PackageDescription: 6-Pin Small Outline No-Lead, Body 1.6 x 1.6 mm, Pitch 0.5 mm; Configuration: Single; Package Type: UDFN-6; Packing: Tape and Reel; RoHS: Pb-Free; Mounting Technology: Surface Mount; ComponentLink1Description: Manufacturer URL; ComponentLink1URL: http://www.onsemi.com/; ComponentLink2Description: Datasheet; ComponentLink2URL: http://www.onsemi.com/pub_link/Collateral/NTLUS3A39PZ-D.PDF; ComponentLink3Description: Package Specification; ComponentLink3URL: http://www.onsemi.com/pub_link/Collateral/517AU.PDF
footprint ONSC-UDFN-6-517AU-01_V (SON, 6-Leads, Body 1.6x1.6mm, Pitch 0.5mm)
pins: 1 D, 2 D, 3 G, 4 S, 5 D, 6 D, 7 D, 8 S
text: 1, 2, 5-7; 4, 8

## NTLUS3A39PZTBG
designator Q?
Power MOSFET, -20 V, -5.2 A, Single P-Channel, ESD, 6-Pin UDFN, Pb-Free, Tape and Reel; Manufacturer: On Semiconductor; PartNumber: NTLUS3A39PZTBG; Channel Polarity: P Channel; Ciss Typ (pF): 920; Coss Typ (pF): 85; Crss Typ (pF): 80; ID Max (A): 5.2; Qrr Typ (nC): 4; V(BR)DSS Min (V): 20; VGS Max (V): 8; VGS(th) Max (V): 1; DatasheetVersion: Rev. 1; PackageVersion: Rev. O, 10/2008; PackageReference: UDFN-6-517AU-01; PackageDescription: 6-Pin Small Outline No-Lead, Body 1.6 x 1.6 mm, Pitch 0.5 mm; Configuration: Single; Package Type: UDFN-6; Packing: Tape and Reel; RoHS: Pb-Free; Mounting Technology: Surface Mount; ComponentLink1Description: Manufacturer URL; ComponentLink1URL: http://www.onsemi.com/; ComponentLink2Description: Datasheet; ComponentLink2URL: http://www.onsemi.com/pub_link/Collateral/NTLUS3A39PZ-D.PDF; ComponentLink3Description: Package Specification; ComponentLink3URL: http://www.onsemi.com/pub_link/Collateral/517AU.PDF
footprint ONSC-UDFN-6-517AU-01_V (SON, 6-Leads, Body 1.6x1.6mm, Pitch 0.5mm)
pins: 1 D, 2 D, 3 G, 4 S, 5 D, 6 D, 7 D, 8 S
text: 1, 2, 5-7; 4, 8

## NTLUS3A40PZTAG
designator Q?
Power MOSFET, -20 V, -9.4 A, uCool(TM) Single P-Channel, ESD, 6-Pin UDFN, Pb-Free, Tape and Reel; Manufacturer: On Semiconductor; PartNumber: NTLUS3A40PZTAG; Channel Polarity: P Channel; Ciss Typ (pF): 2600; Coss Typ (pF): 200; Crss Typ (pF): 190; ID Max (A): 9.4; Qrr Typ (nC): 13.6; V(BR)DSS Min (V): 20; VGS Max (V): 8; VGS(th) Max (V): 1; DatasheetVersion: Rev. 3; PackageVersion: Rev. A, 02/2010; PackageReference: UDFN-6-517BG-01; PackageDescription: 6-Pin Small Outline No-Lead, Body 2 x 2 mm, Pitch 0.65 mm; Configuration: Single; Package Type: UDFN-6; Packing: Tape and Reel; RoHS: Pb-Free; Mounting Technology: Surface Mount; ComponentLink1Description: Manufacturer URL; ComponentLink1URL: http://www.onsemi.com/; ComponentLink2Description: Datasheet; ComponentLink2URL: http://www.onsemi.com/pub_link/Collateral/NTLUS3A40PZ-D.PDF; ComponentLink3Description: Package Specification; ComponentLink3URL: http://www.onsemi.com/pub_link/Collateral/517BG.PDF
footprint ONSC-UDFN-6-517BG-01_V (SON, 6-Leads, Body 2x2mm, Pitch 0.65mm)
pins: 1 D, 2 D, 3 G, 4 S, 5 D, 6 D, 7 D, 8 S
text: 1, 2, 5-7; 4, 8

## NTLUS3A40PZTBG
designator Q?
Power MOSFET, -20 V, -9.4 A, uCool(TM) Single P-Channel, ESD, 6-Pin UDFN, Pb-Free, Tape and Reel; Manufacturer: On Semiconductor; PartNumber: NTLUS3A40PZTBG; Channel Polarity: P Channel; Ciss Typ (pF): 2600; Coss Typ (pF): 200; Crss Typ (pF): 190; ID Max (A): 9.4; Qrr Typ (nC): 13.6; V(BR)DSS Min (V): 20; VGS Max (V): 8; VGS(th) Max (V): 1; DatasheetVersion: Rev. 3; PackageVersion: Rev. A, 02/2010; PackageReference: UDFN-6-517BG-01; PackageDescription: 6-Pin Small Outline No-Lead, Body 2 x 2 mm, Pitch 0.65 mm; Configuration: Single; Package Type: UDFN-6; Packing: Tape and Reel; RoHS: Pb-Free; Mounting Technology: Surface Mount; ComponentLink1Description: Manufacturer URL; ComponentLink1URL: http://www.onsemi.com/; ComponentLink2Description: Datasheet; ComponentLink2URL: http://www.onsemi.com/pub_link/Collateral/NTLUS3A40PZ-D.PDF; ComponentLink3Description: Package Specification; ComponentLink3URL: http://www.onsemi.com/pub_link/Collateral/517BG.PDF
footprint ONSC-UDFN-6-517BG-01_V (SON, 6-Leads, Body 2x2mm, Pitch 0.65mm)
pins: 1 D, 2 D, 3 G, 4 S, 5 D, 6 D, 7 D, 8 S
text: 1, 2, 5-7; 4, 8

## NTLUS3A90PZTAG
designator Q?
Power MOSFET, -20 V, -5.0 A, Cool Single P-Channel, ESD, 6-Pin UDFN, Pb-Free, Tape and Reel; Manufacturer: On Semiconductor; PartNumber: NTLUS3A90PZTAG; Channel Polarity: P Channel; Ciss Typ (pF): 950; Coss Typ (pF): 90; Crss Typ (pF): 85; ID Max (A): 5; Qrr Typ (nC): 6; V(BR)DSS Min (V): 20; VGS Max (V): 8; VGS(th) Max (V): 1; DatasheetVersion: Rev. 2; PackageVersion: Rev. O, 10/2008; PackageReference: UDFN-6-517AU-01; PackageDescription: 6-Pin Small Outline No-Lead, Body 1.6 x 1.6 mm, Pitch 0.5 mm; Configuration: Single; Package Type: UDFN-6; Packing: Tape and Reel; RoHS: Pb-Free; Mounting Technology: Surface Mount; ComponentLink1Description: Manufacturer URL; ComponentLink1URL: http://www.onsemi.com/; ComponentLink2Description: Datasheet; ComponentLink2URL: http://www.onsemi.com/pub_link/Collateral/NTLUS3A90PZ-D.PDF; ComponentLink3Description: Package Specification; ComponentLink3URL: http://www.onsemi.com/pub_link/Collateral/517AU.PDF
footprint ONSC-UDFN-6-517AU-01_V (SON, 6-Leads, Body 1.6x1.6mm, Pitch 0.5mm)
pins: 1 D, 2 D, 3 G, 4 S, 5 D, 6 D, 7 D, 8 S
text: 1, 2, 5-7; 4, 8

## NTLUS3A90PZTBG
designator Q?
Power MOSFET, -20 V, -5.0 A, Cool Single P-Channel, ESD, 6-Pin UDFN, Pb-Free, Tape and Reel; Manufacturer: On Semiconductor; PartNumber: NTLUS3A90PZTBG; Channel Polarity: P Channel; Ciss Typ (pF): 950; Coss Typ (pF): 90; Crss Typ (pF): 85; ID Max (A): 5; Qrr Typ (nC): 6; V(BR)DSS Min (V): 20; VGS Max (V): 8; VGS(th) Max (V): 1; DatasheetVersion: Rev. 2; PackageVersion: Rev. O, 10/2008; PackageReference: UDFN-6-517AU-01; PackageDescription: 6-Pin Small Outline No-Lead, Body 1.6 x 1.6 mm, Pitch 0.5 mm; Configuration: Single; Package Type: UDFN-6; Packing: Tape and Reel; RoHS: Pb-Free; Mounting Technology: Surface Mount; ComponentLink1Description: Manufacturer URL; ComponentLink1URL: http://www.onsemi.com/; ComponentLink2Description: Datasheet; ComponentLink2URL: http://www.onsemi.com/pub_link/Collateral/NTLUS3A90PZ-D.PDF; ComponentLink3Description: Package Specification; ComponentLink3URL: http://www.onsemi.com/pub_link/Collateral/517AU.PDF
footprint ONSC-UDFN-6-517AU-01_V (SON, 6-Leads, Body 1.6x1.6mm, Pitch 0.5mm)
pins: 1 D, 2 D, 3 G, 4 S, 5 D, 6 D, 7 D, 8 S
text: 1, 2, 5-7; 4, 8

## NTLUS4930NTAG
designator Q?
Power MOSFET, 30 V, 6.1 A, Single N-Channel, 6-Pin UDFN, Pb-Free, Tape and Reel; Manufacturer: On Semiconductor; PartNumber: NTLUS4930NTAG; Channel Polarity: N Channel; Ciss Typ (pF): 476; Coss Typ (pF): 197; Crss Typ (pF): 100; Qrr Typ (nC): 5.4; V(BR)DSS Min (V): 30; VGS Max (V): 20; VGS(th) Max (V): 2.2; DatasheetVersion: Rev. 1; PackageVersion: Rev. A, 02/2010; PackageReference: UDFN-6-517BG-01; PackageDescription: 6-Pin Small Outline No-Lead, Body 2 x 2 mm, Pitch 0.65 mm; Configuration: Single; Package Type: UDFN-6; Packing: Tape and Reel; RoHS: Pb-Free; Mounting Technology: Surface Mount; ComponentLink1Description: Manufacturer URL; ComponentLink1URL: http://www.onsemi.com/; ComponentLink2Description: Datasheet; ComponentLink2URL: http://www.onsemi.com/pub_link/Collateral/NTLUS4930N-D.PDF; ComponentLink3Description: Package Specification; ComponentLink3URL: http://www.onsemi.com/pub_link/Collateral/517BG.PDF
footprint ONSC-UDFN-6-517BG-01_V (SON, 6-Leads, Body 2x2mm, Pitch 0.65mm)
pins: 1 D, 2 D, 3 G, 4 S, 5 D, 6 D, 7 D, 8 S
text: 1, 2, 5-7; 4, 8

## NTLUS4930NTBG
designator Q?
Power MOSFET, 30 V, 6.1 A, Single N-Channel, 6-Pin UDFN, Pb-Free, Tape and Reel; Manufacturer: On Semiconductor; PartNumber: NTLUS4930NTBG; Channel Polarity: N Channel; Ciss Typ (pF): 476; Coss Typ (pF): 197; Crss Typ (pF): 100; Qrr Typ (nC): 5.4; V(BR)DSS Min (V): 30; VGS Max (V): 20; VGS(th) Max (V): 2.2; DatasheetVersion: Rev. 1; PackageVersion: Rev. A, 02/2010; PackageReference: UDFN-6-517BG-01; PackageDescription: 6-Pin Small Outline No-Lead, Body 2 x 2 mm, Pitch 0.65 mm; Configuration: Single; Package Type: UDFN-6; Packing: Tape and Reel; RoHS: Pb-Free; Mounting Technology: Surface Mount; ComponentLink1Description: Manufacturer URL; ComponentLink1URL: http://www.onsemi.com/; ComponentLink2Description: Datasheet; ComponentLink2URL: http://www.onsemi.com/pub_link/Collateral/NTLUS4930N-D.PDF; ComponentLink3Description: Package Specification; ComponentLink3URL: http://www.onsemi.com/pub_link/Collateral/517BG.PDF
footprint ONSC-UDFN-6-517BG-01_V (SON, 6-Leads, Body 2x2mm, Pitch 0.65mm)
pins: 1 D, 2 D, 3 G, 4 S, 5 D, 6 D, 7 D, 8 S
text: 1, 2, 5-7; 4, 8

## NTMD4N03R2G
designator Q?
Power MOSFET, 4 A, 30 V, N-Channel Dual, 8-Pin SOIC, Pb-Free, Tape and Reel; Manufacturer: On Semiconductor; PartNumber: NTMD4N03R2G; Channel Polarity: N Channel; Ciss Typ (pF): 285; Coss Typ (pF): 95; Crss Typ (pF): 35; ID Max (A): 4; PD Max (W): 2; Qrr Typ (nC): 8; V(BR)DSS Min (V): 30; VGS Max (V): 20; VGS(th) Max (V): 3; DatasheetVersion: Rev. 4; PackageVersion: Rev. AK, 02/2011; PackageReference: SOIC-8-751-07; PackageDescription: 8-Pin Small Outline Integrated Circuit, Body 4.9 x 3.9 mm, Pitch 1.27 mm; Configuration: Dual; Package Type: SOIC-8; Packing: Tape and Reel; RoHS: Pb-Free; Mounting Technology: Surface Mount; ComponentLink1Description: Manufacturer URL; ComponentLink1URL: http://www.onsemi.com/; ComponentLink2Description: Datasheet; ComponentLink2URL: http://www.onsemi.com/pub_link/Collateral/NTMD4N03R2-D.PDF; ComponentLink3Description: Package Specification; ComponentLink3URL: http://www.onsemi.com/pub_link/Collateral/751-07.PDF
footprint ONSC-SOIC-8-751-07_V (SOIC, 8-Leads, Body 4.9x3.9mm, Pitch 1.27mm)
part A pins: 1 S1, 2 G1, 7 D1, 8 D1
part B pins: 3 S2, 4 G2, 5 D2, 6 D2
part A text: 7, 8
part B text: 5, 6

## NTMD6N02R2
designator Q?
Power MOSFET, 6 A, 20 V, Dual N-Channel Enhancement Mode, 8-Pin SOIC, Pb-Free, Tape and Reel; Manufacturer: On Semiconductor; PartNumber: NTMD6N02R2; Channel Polarity: N Channel; Ciss Typ (pF): 785; Coss Typ (pF): 260; Crss Typ (pF): 75; ID Max (A): 6; Qrr Typ (nC): 20; VGS Max (V): 12; VGS(th) Max (V): 1.2; DatasheetVersion: Rev. 3; PackageVersion: Rev. AK, 02/2011; PackageReference: SOIC-8-751-07; PackageDescription: 8-Pin Small Outline Integrated Circuit, Body 4.9 x 3.9 mm, Pitch 1.27 mm; Configuration: Dual; Package Type: SOIC-8; Packing: Tape and Reel; RoHS: Pb-Free; V(BR)DSS Min (V): 20; Mounting Technology: Surface Mount; ComponentLink1Description: Manufacturer URL; ComponentLink1URL: http://www.onsemi.com/; ComponentLink2Description: Datasheet; ComponentLink2URL: http://www.onsemi.com/pub_link/Collateral/NTMD6N02R2-D.PDF; ComponentLink3Description: Package Specification; ComponentLink3URL: http://www.onsemi.com/pub_link/Collateral/751-07.PDF
footprint ONSC-SOIC-8-751-07_V (SOIC, 8-Leads, Body 4.9x3.9mm, Pitch 1.27mm)
part A pins: 1 S1, 2 G1, 7 D1, 8 D1
part B pins: 3 S2, 4 G2, 5 D2, 6 D2
part A text: 7, 8
part B text: 5, 6

## NTMD6N02R2G
designator Q?
Power MOSFET, 6 A, 20 V, Dual N-Channel Enhancement Mode, 8-Pin SOIC, Pb-Free, Tape and Reel; Manufacturer: On Semiconductor; PartNumber: NTMD6N02R2G; Channel Polarity: N Channel; Ciss Typ (pF): 785; Coss Typ (pF): 260; Crss Typ (pF): 75; ID Max (A): 6; Qrr Typ (nC): 20; VGS Max (V): 12; VGS(th) Max (V): 1.2; DatasheetVersion: Rev. 3; PackageVersion: Rev. AK, 02/2011; PackageReference: SOIC-8-751-07; PackageDescription: 8-Pin Small Outline Integrated Circuit, Body 4.9 x 3.9 mm, Pitch 1.27 mm; Configuration: Dual; Package Type: SOIC-8; Packing: Tape and Reel; RoHS: Pb-Free; V(BR)DSS Min (V): 20; Mounting Technology: Surface Mount; ComponentLink1Description: Manufacturer URL; ComponentLink1URL: http://www.onsemi.com/; ComponentLink2Description: Datasheet; ComponentLink2URL: http://www.onsemi.com/pub_link/Collateral/NTMD6N02R2-D.PDF; ComponentLink3Description: Package Specification; ComponentLink3URL: http://www.onsemi.com/pub_link/Collateral/751-07.PDF
footprint ONSC-SOIC-8-751-07_V (SOIC, 8-Leads, Body 4.9x3.9mm, Pitch 1.27mm)
part A pins: 1 S1, 2 G1, 7 D1, 8 D1
part B pins: 3 S2, 4 G2, 5 D2, 6 D2
part A text: 7, 8
part B text: 5, 6

## NTMD6N04R2G
designator Q?
Power MOSFET, 40 V, 5.8 A, Dual N-Channel, 8-Pin SOIC, Pb-Free, Tape and Reel; Manufacturer: On Semiconductor; PartNumber: NTMD6N04R2G; Channel Polarity: N Channel; Ciss Typ (pF): 723; Coss Typ (pF): 156; Crss Typ (pF): 53; ID Max (A): 5.8; Qrr Typ (nC): 20; V(BR)DSS Min (V): 40; VGS(th) Max (V): 3; DatasheetVersion: Rev. 2; PackageVersion: Rev. AK, 02/2011; PackageReference: SOIC-8-751-07; PackageDescription: 8-Pin Small Outline Integrated Circuit, Body 4.9 x 3.9 mm, Pitch 1.27 mm; Configuration: Dual; Package Type: SOIC-8; Packing: Tape and Reel; RoHS: Pb-Free; VGS Max (V): 20; Mounting Technology: Surface Mount; ComponentLink1Description: Manufacturer URL; ComponentLink1URL: http://www.onsemi.com/; ComponentLink2Description: Datasheet; ComponentLink2URL: http://www.onsemi.com/pub_link/Collateral/NTMD6N04R2-D.PDF; ComponentLink3Description: Package Specification; ComponentLink3URL: http://www.onsemi.com/pub_link/Collateral/751-07.PDF
footprint ONSC-SOIC-8-751-07_V (SOIC, 8-Leads, Body 4.9x3.9mm, Pitch 1.27mm)
part A pins: 1 S1, 2 G1, 7 D1, 8 D1
part B pins: 3 S2, 4 G2, 5 D2, 6 D2
part A text: 7, 8
part B text: 5, 6

## NTMD6P02R2G
designator Q?
Power MOSFET, 6 A, 20 V, P-Channel SOIC-8, Dual, 8-Pin SOIC, Pb-Free, Tape and Reel; Manufacturer: On Semiconductor; PartNumber: NTMD6P02R2G; Channel Polarity: P Channel; Ciss Typ (pF): 1380; Coss Typ (pF): 515; Crss Typ (pF): 250; Qrr Typ (nC): 40; V(BR)DSS Min (V): 20; VGS Max (V): 12; VGS(th) Max (V): 1.2; DatasheetVersion: Rev. 4; PackageVersion: Rev. AK, 02/2011; PackageReference: SOIC-8-751-07; PackageDescription: 8-Pin Small Outline Integrated Circuit, Body 4.9 x 3.9 mm, Pitch 1.27 mm; Configuration: Dual; Package Type: SOIC-8; Packing: Tape and Reel; RoHS: Pb-Free; Mounting Technology: Surface Mount; ComponentLink1Description: Manufacturer URL; ComponentLink1URL: http://www.onsemi.com/; ComponentLink2Description: Datasheet; ComponentLink2URL: http://www.onsemi.com/pub_link/Collateral/NTMD6P02R2-D.PDF; ComponentLink3Description: Package Specification; ComponentLink3URL: http://www.onsemi.com/pub_link/Collateral/751-07.PDF
footprint ONSC-SOIC-8-751-07_V (SOIC, 8-Leads, Body 4.9x3.9mm, Pitch 1.27mm)
part A pins: 1 S1, 2 G1, 7 D1, 8 D1
part B pins: 3 S2, 4 G2, 5 D2, 6 D2
part A text: 7, 8
part B text: 5, 6

## NTMD6P02R2SG
designator Q?
Power MOSFET, 6 A, 20 V, P-Channel SOIC-8, Dual, 8-Pin SOIC, Pb-Free, Tape and Reel; Manufacturer: On Semiconductor; PartNumber: NTMD6P02R2SG; Channel Polarity: P Channel; Ciss Typ (pF): 1380; Coss Typ (pF): 515; Crss Typ (pF): 250; Qrr Typ (nC): 40; V(BR)DSS Min (V): 20; VGS Max (V): 12; VGS(th) Max (V): 1.2; DatasheetVersion: Rev. 4; PackageVersion: Rev. AK, 02/2011; PackageReference: SOIC-8-751-07; PackageDescription: 8-Pin Small Outline Integrated Circuit, Body 4.9 x 3.9 mm, Pitch 1.27 mm; Configuration: Dual; Package Type: SOIC-8; Packing: Tape and Reel; RoHS: Pb-Free; Mounting Technology: Surface Mount; ComponentLink1Description: Manufacturer URL; ComponentLink1URL: http://www.onsemi.com/; ComponentLink2Description: Datasheet; ComponentLink2URL: http://www.onsemi.com/pub_link/Collateral/NTMD6P02R2-D.PDF; ComponentLink3Description: Package Specification; ComponentLink3URL: http://www.onsemi.com/pub_link/Collateral/751-07.PDF
footprint ONSC-SOIC-8-751-07_V (SOIC, 8-Leads, Body 4.9x3.9mm, Pitch 1.27mm)
part A pins: 1 S1, 2 G1, 7 D1, 8 D1
part B pins: 3 S2, 4 G2, 5 D2, 6 D2
part A text: 7, 8
part B text: 5, 6

## NTMD4184PFR2G
designator U?
Power MOSFET and Schottky Diode, -30 V, -4 A, Single P-Channel with 20 V, 2.2 A, 8-Pin SOIC, Pb-Free, Tape and Reel; Manufacturer: On Semiconductor; PartNumber: NTMD4184PFR2G; Channel Polarity: P Channel; Ciss Typ (pF): 280; Configuration: with Schottky Diode; Coss Typ (pF): 80; Crss Typ (pF): 52; ID Max (A): 4; Qrr Typ (nC): 7.4; V(BR)DSS Min (V): 30; VGS Max (V): 20; VGS(th) Max (V): 3; DatasheetVersion: Rev. 0; PackageVersion: Rev. AK, 02/2011; PackageReference: SOIC-8-751-07; PackageDescription: 8-Pin Small Outline Integrated Circuit, Body 4.9 x 3.9 mm, Pitch 1.27 mm; Package Type: SOIC-8; Packing: Tape and Reel; RoHS: Pb-Free; Mounting Technology: Surface Mount; ComponentLink1Description: Manufacturer URL; ComponentLink1URL: http://www.onsemi.com/; ComponentLink2Description: Datasheet; ComponentLink2URL: http://www.onsemi.com/pub_link/Collateral/NTMD4184PF-D.PDF; ComponentLink3Description: Package Specification; ComponentLink3URL: http://www.onsemi.com/pub_link/Collateral/751-07.PDF
footprint ONSC-SOIC-8-751-07_V (SOIC, 8-Leads, Body 4.9x3.9mm, Pitch 1.27mm)
part A pins: 1 A, 2 A, 7 K, 8 K
part B pins: 3 S, 4 G, 5 D, 6 D
part A text: 1, 2; 7, 8
part B text: 5, 6

## NTMD4820NR2G
designator Q?
Power MOSFET, 30 V, 8 A, Dual N-Channel, 8-Pin SOIC, Pb-Free, Tape and Reel; Manufacturer: On Semiconductor; PartNumber: NTMD4820NR2G; Channel Polarity: N Channel; Ciss Typ (pF): 940; Coss Typ (pF): 225; Crss Typ (pF): 125; ID Max (A): 8; V(BR)DSS Min (V): 30; VGS Max (V): 20; VGS(th) Max (V): 3; DatasheetVersion: Rev. 2; PackageVersion: Rev. AK, 02/2011; PackageReference: SOIC-8-751-07; PackageDescription: 8-Pin Small Outline Integrated Circuit, Body 4.9 x 3.9 mm, Pitch 1.27 mm; Configuration: Dual; Package Type: SOIC-8; Packing: Tape and Reel; Qrr Typ (nC): 8; RoHS: Pb-Free; Mounting Technology: Surface Mount; ComponentLink1Description: Manufacturer URL; ComponentLink1URL: http://www.onsemi.com/; ComponentLink2Description: Datasheet; ComponentLink2URL: http://www.onsemi.com/pub_link/Collateral/NTMD4820N-D.PDF; ComponentLink3Description: Package Specification; ComponentLink3URL: http://www.onsemi.com/pub_link/Collateral/751-07.PDF
footprint ONSC-SOIC-8-751-07_V (SOIC, 8-Leads, Body 4.9x3.9mm, Pitch 1.27mm)
part A pins: 1 S1, 2 G1, 7 D1, 8 D1
part B pins: 3 S2, 4 G2, 5 D2, 6 D2
part A text: 7, 8
part B text: 5, 6

## NTMD4840NR2G
designator Q?
Power MOSFET, 30 V, 7.5 A, Dual N-Channel, 8-Pin SOIC, Pb-Free, Tape and Reel; Manufacturer: On Semiconductor; PartNumber: NTMD4840NR2G; Channel Polarity: N Channel; Ciss Typ (pF): 520; Coss Typ (pF): 140; Crss Typ (pF): 70; ID Max (A): 7.5; Qrr Typ (nC): 6; V(BR)DSS Min (V): 30; VGS Max (V): 20; VGS(th) Max (V): 3; DatasheetVersion: Rev. 1; PackageVersion: Rev. AK, 02/2011; PackageReference: SOIC-8-751-07; PackageDescription: 8-Pin Small Outline Integrated Circuit, Body 4.9 x 3.9 mm, Pitch 1.27 mm; Configuration: Dual; Package Type: SOIC-8; Packing: Tape and Reel; RoHS: Pb-Free; Mounting Technology: Surface Mount; ComponentLink1Description: Manufacturer URL; ComponentLink1URL: http://www.onsemi.com/; ComponentLink2Description: Datasheet; ComponentLink2URL: http://www.onsemi.com/pub_link/Collateral/NTMD4840N-D.PDF; ComponentLink3Description: Package Specification; ComponentLink3URL: http://www.onsemi.com/pub_link/Collateral/751-07.PDF
footprint ONSC-SOIC-8-751-07_V (SOIC, 8-Leads, Body 4.9x3.9mm, Pitch 1.27mm)
part A pins: 1 S1, 2 G1, 7 D1, 8 D1
part B pins: 3 S2, 4 G2, 5 D2, 6 D2
part A text: 7, 8
part B text: 5, 6

## NTMD5836NLR2G
designator Q?
Power MOSFET, 40 V, Dual N-Channel, 8-Pin SOIC, Pb-Free, Tape and Reel; Manufacturer: On Semiconductor; PartNumber: NTMD5836NLR2G; Channel Polarity: N Channel; V(BR)DSS Min (V): 40; VGS Max (V): 20; VGS(th) Max (V): 3; DatasheetVersion: Rev. 1; PackageVersion: Rev. AK, 02/2011; PackageReference: SOIC-8-751-07; PackageDescription: 8-Pin Small Outline Integrated Circuit, Body 4.9 x 3.9 mm, Pitch 1.27 mm; Configuration: Dual; Package Type: SOIC-8; Packing: Tape and Reel; RoHS: Pb-Free; Mounting Technology: Surface Mount; ComponentLink1Description: Manufacturer URL; ComponentLink1URL: http://www.onsemi.com/; ComponentLink2Description: Datasheet; ComponentLink2URL: http://www.onsemi.com/pub_link/Collateral/NTMD5836NL-D.PDF; ComponentLink3Description: Package Specification; ComponentLink3URL: http://www.onsemi.com/pub_link/Collateral/751-07.PDF
footprint ONSC-SOIC-8-751-07_V (SOIC, 8-Leads, Body 4.9x3.9mm, Pitch 1.27mm)
part A pins: 1 S1, 2 G1, 7 D1, 8 D1
part B pins: 3 S2, 4 G2, 5 D2, 6 D2
part A text: 7, 8
part B text: 5, 6

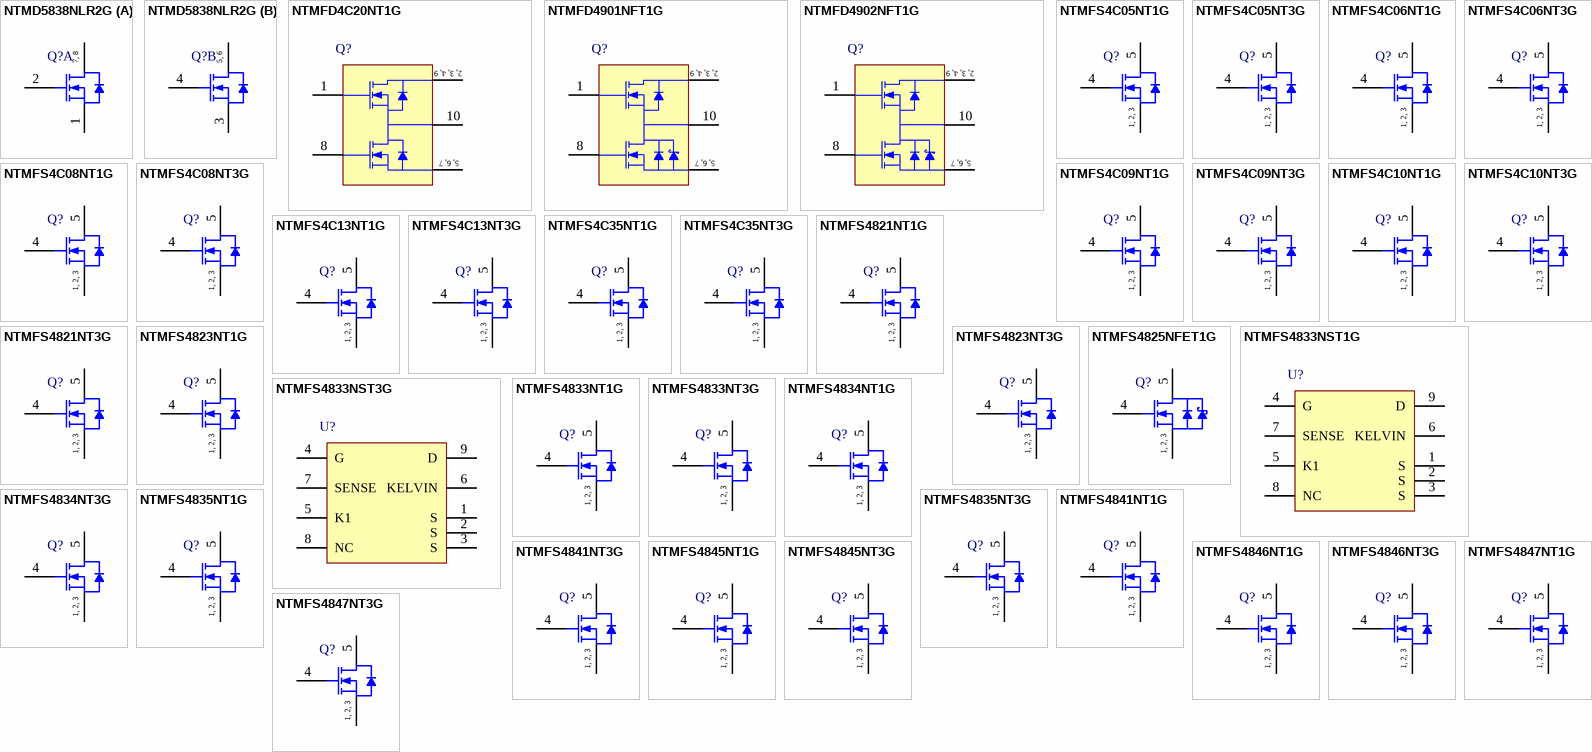
[diagram p19: symbols NTMD5838NLR2G to NTMFS4847NT3G]